# EAGLE library part BA6124 (library Wskazniki wysterowania)
Vcc = +3,5V ... +16V (+18V MAX!) Unom = 6V D1 = -10dB D2 = -5dB D3 = 0dB D4 = +3dB D5 = +6dB
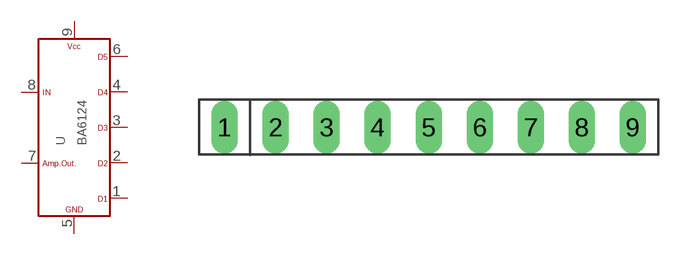
[diagram p1: symbol with the pads of SIP-9; footprint SIP-9]

Designator prefix U

## BA6124  [SIP-9]
1  D1  out
2  D2  out
3  D3  out
4  D4  out
5  GND  pwr
6  D5  out
7  AMP.OUT  out
8  IN  in
9  VCC  pwr

## Footprint SIP-9 (pad centres in mm)
drill 0.813 long: 1 -10.16,0; 2 -7.62,0; 3 -5.08,0; 4 -2.54,0; 5 0,0; 6 2.54,0; 7 5.08,0; 8 7.62,0; 9 10.16,0